# EAGLE library part USB4500-03-1-A (library USB4500-03-1-A)
USB Connectors USB C Rec 16P 3u" Mid Mnt 0.8mm O-set SMT L = 6.5mm S-Spring-1 Source: Datasheet <https://pl.mouser.com/datasheet/2/837/usb4500-2583670.pdf>
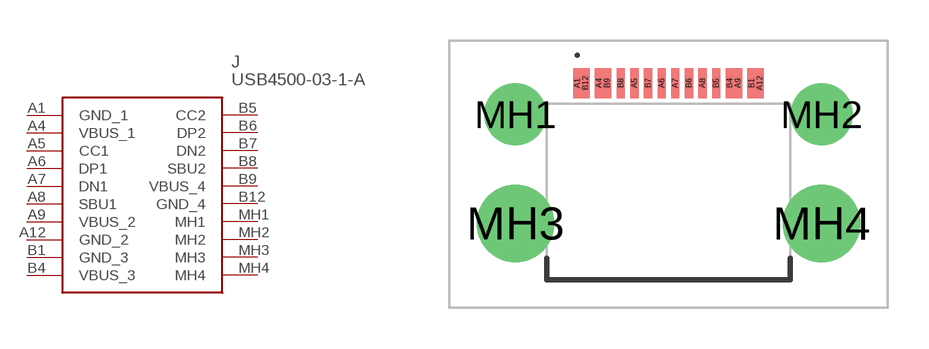
[diagram p0: symbol with the pads of USB4500031A; footprint USB4500031A]

Designator prefix J

## USB4500-03-1-A (Description: USB Connectors USB C Rec 16P 3u" Mid Mnt 0.8mm O-set SMT L = 6.5mm S-Spring-1; Height: 3.36mm; Manufacturer_Name: GCT (GLOBAL CONNECTOR TECHNOLOGY); Manufacturer_Part_Number: USB4500-03-1-A; Mouser_Part_Number: 640-USB4500031A; Mouser_Price-Stock: https://www.mouser.co.uk/ProductDetail/GCT/USB4500-03-1-A?qs=7D1LtPJG0i0Bl4gt1pUZZw%3D%3D)  [USB4500031A]
A1  GND_1
A4  VBUS_1
A5  CC1
A6  DP1
A7  DN1
A8  SBU1
A9  VBUS_2
A12  GND_2
B1  GND_3
B4  VBUS_3
B5  CC2
B6  DP2
B7  DN2
B8  SBU2
B9  VBUS_4
B12  GND_4
MH1  MH1
MH2  MH2
MH3  MH3
MH4  MH4

## Footprint USB4500031A (pad centres in mm)
USB4500-03-1-A-1
smd 0.3 x 1.1: A1 -3.35,3.625; A4 -2.55,3.625; A5 -1.25,3.625; A6 -0.25,3.625; A7 0.25,3.625; A8 1.25,3.625; A9 2.55,3.625; A12 3.35,3.625; B1 3.05,3.625; B4 2.25,3.625; B5 1.75,3.625; B6 0.75,3.625; B7 -0.75,3.625; B8 -1.75,3.625; B9 -2.25,3.625; B12 -3.05,3.625
drill 1.52 pad 2.28: MH1 -5.62,2.475; MH2 5.62,2.475
drill 1.9 pad 2.85: MH3 -5.62,-1.525; MH4 5.62,-1.525